# Altium schematic symbol library PoEControler_ST_PM8803TR.SchLib: 1 symbol
Pins are listed as number, name and electrical type; pins without a type are passive.

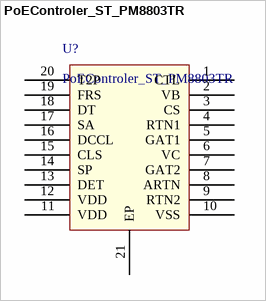
[diagram p0: symbol PoEControler_ST_PM8803TR]

## PoEControler_ST_PM8803TR
designator U?
IC POE-PD/PWM CTLR 20-HTSSOP
pins: 1 CTL, 2 VB, 3 CS, 4 RTN1, 5 GAT1, 6 VC, 7 GAT2, 8 ARTN, 9 RTN2, 10 VSS, 11 VDD, 12 VDD, 13 DET, 14 SP, 15 CLS, 16 DCCL, 17 SA, 18 DT, 19 FRS, 20 T2P, 21 EP